# Altium schematic symbol library Header_2P_Hirose_DF58.Schlib: 1 symbol
Pins are listed as number, name and electrical type; pins without a type are passive.

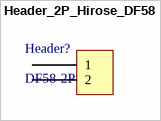
[diagram p0: symbol Header_2P_Hirose_DF58]

## Header_2P_Hirose_DF58
designator Header?, comment DF58-2P
footprint HRS_DF58_2P
pins: 1, 2